# Altium schematic symbol library BMS.SchLib: 9 symbols
Pins are listed as number, name and electrical type; pins without a type are passive.

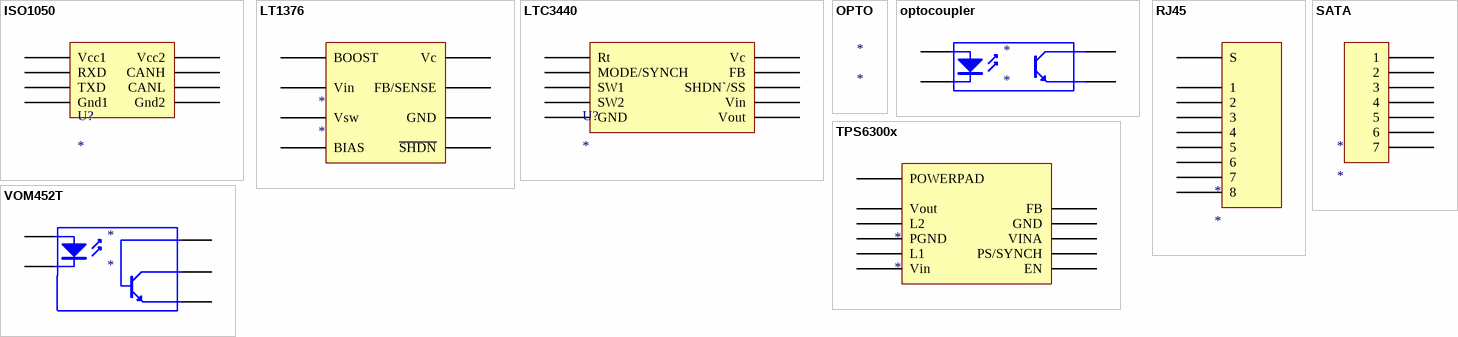
[diagram p0: symbols ISO1050 to VOM452T]

## ISO1050
designator U?
footprint SO8
pins: 1 Vcc1, 2 RXD, 3 TXD, 4 Gnd1, 5 Gnd2, 6 CANL, 7 CANH, 8 Vcc2

## LT1376
designator *
footprint SO8
pins: 1 BOOST, 2 Vin, 3 Vsw, 4 BIAS, 5 ~{SHDN}, 6 GND, 7 FB/SENSE, 8 Vc

## LTC3440
designator U?
footprint MSOP10
pins: 1 Rt, 2 MODE/SYNCH, 3 SW1, 4 SW2, 5 GND, 6 Vout, 7 Vin, 8 SHDN`/SS, 9 FB, 10 Vc

## OPTO
designator *

## optocoupler
designator *
pins: 1 A, 3 K, 4 E, 6 C

## RJ45
designator *
footprint RJ45
pins: 0 S, 1, 2, 3, 4, 5, 6, 7, 8

## SATA
designator *
footprint 47080-4005-SATA
pins: 1, 2, 3, 4, 5, 6, 7

## TPS6300x
designator *
pins: 0 POWERPAD, 1 Vout, 2 L2, 3 PGND, 4 L1, 5 Vin, 6 EN, 7 PS/SYNCH, 8 VINA, 9 GND, 10 FB

## VOM452T
designator *
pins: 1 A, 3 K, 4 E, 5 C, 6 C